# EAGLE library part MC9S08JS16-20 (library freescale-hcs08)
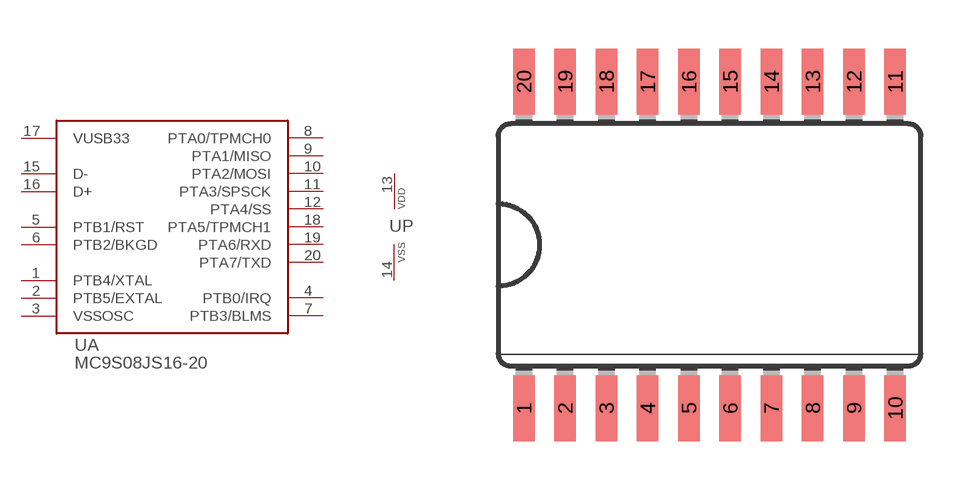
[diagram p11: symbol with the pads of SO20W; footprint SO20W]

Designator prefix -; gates A=MC9S08JS16-20 P=VDD-VSS

## MC9S08JS16-20CWJ  [SO20W]
1  A:PTB4/XTAL
2  A:PTB5/EXTAL
3  A:VSSOSC
4  A:PTB0/IRQ
5  A:PTB1/RST
6  A:PTB2/BKGD
7  A:PTB3/BLMS
8  A:PTA0/TPMCH0
9  A:PTA1/MISO
10  A:PTA2/MOSI
11  A:PTA3/SPSCK
12  A:PTA4/SS
13  P:VDD  pwr
14  P:VSS  pwr
15  A:D-
16  A:D+
17  A:VUSB33
18  A:PTA5/TPMCH1
19  A:PTA6/RXD
20  A:PTA7/TXD

## Footprint SO20W (pad centres in mm)
Small Outline Package
smd 0.66 x 2.032: 1 -5.715,-5.029; 2 -4.445,-5.029; 3 -3.175,-5.029; 4 -1.905,-5.029; 5 -0.635,-5.029; 6 0.635,-5.029; 7 1.905,-5.029; 8 3.175,-5.029; 9 4.445,-5.029; 10 5.715,-5.029; 11 5.715,5.029; 12 4.445,5.029; 13 3.175,5.029; 14 1.905,5.029; 15 0.635,5.029; 16 -0.635,5.029; 17 -1.905,5.029; 18 -3.175,5.029; 19 -4.445,5.029; 20 -5.715,5.029